# Altium integrated library NSC LDO.IntLib: 1202 symbols (part 20 of 27)
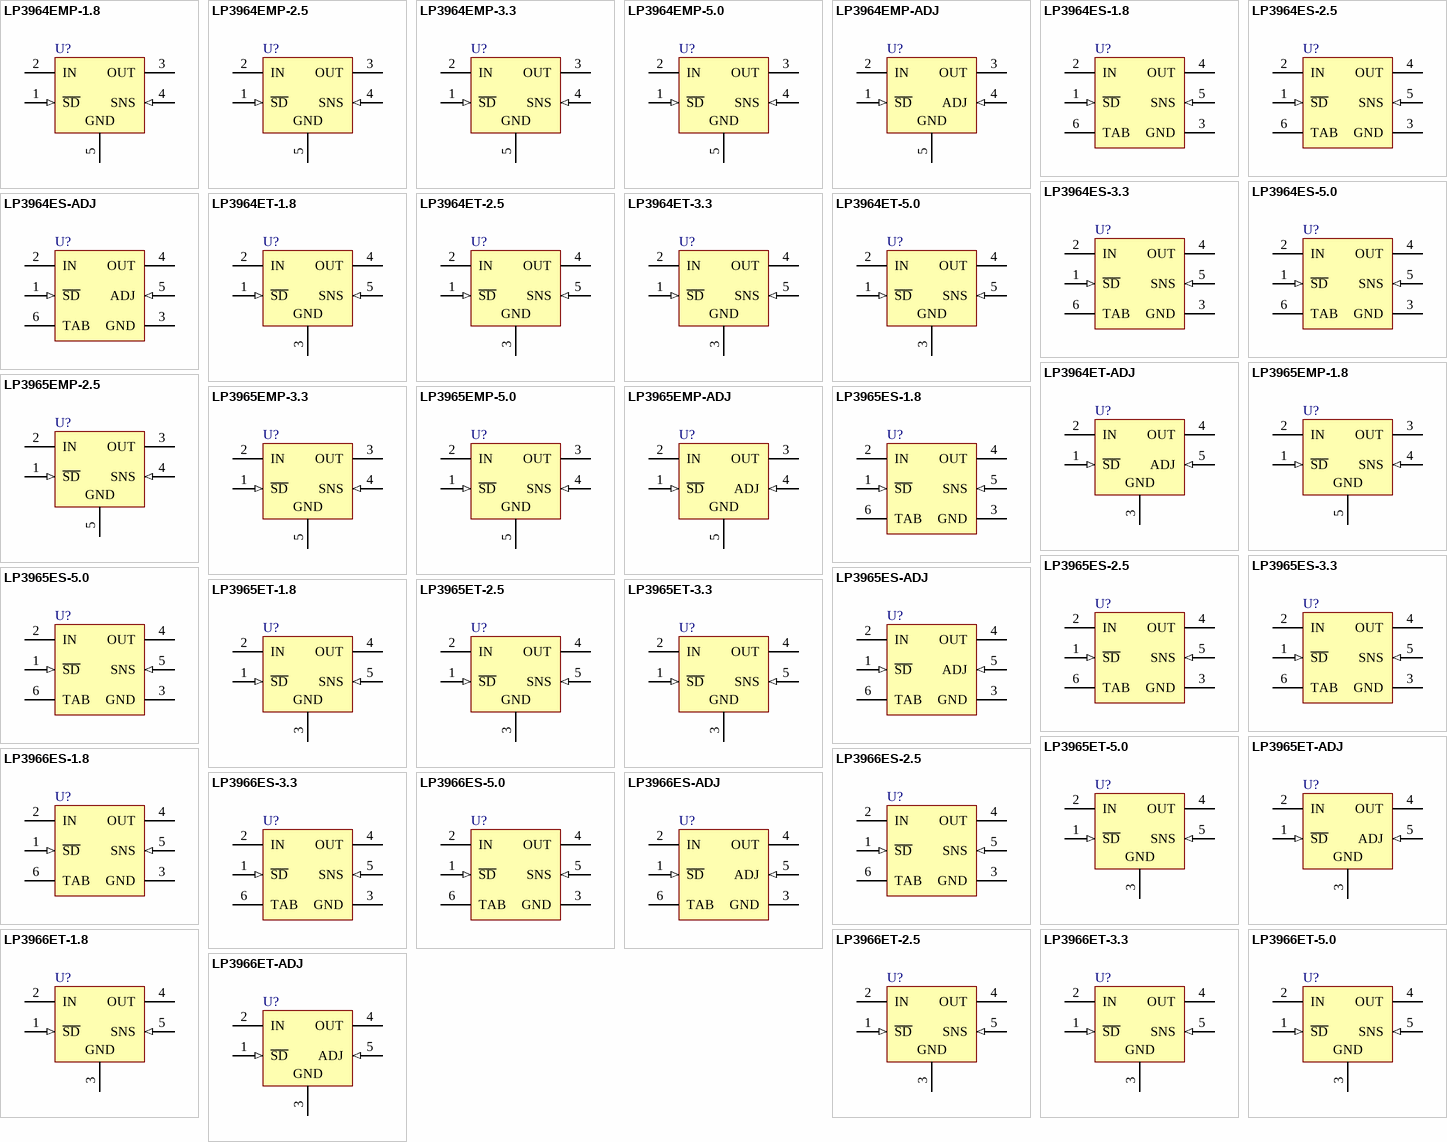
[diagram p49: symbols LP3964EMP-1.8 to LP3966ET-ADJ]

## LP3964ET-ADJ
designator U?
800mA Fast Ultra Low Dropout Linear Regulator; PartNumber: LP3964ET-ADJ; Manufacturer: National Semiconductor; CompType: LDO IC; PackageTopMarking: NSUZXYTTE#*LP3964ET*-ADJ; Published: 4-Dec-2008; DatasheetVersion: Sep-2006; PackageVersion: revA, Oct-1989; PackageReference: T05D; Publisher: Altium Limited; PackageDescription: TO-220, Molded, Stagger Bend, 5 Lead; RoHS: Y; PinCount: 5; DigiKeyPartNumber: LP3964ET-ADJ-ND; ComponentLink1Description: LP3964 Datasheet; ComponentLink1URL: http://www.national.com/ds/LP/LP3964.pdf; ComponentLink2Description: LP3964 Web Page; ComponentLink2URL: http://www.national.com/pf/LP/LP3964.html; ComponentLink3Description: T05D Package Page; ComponentLink3URL: http://www.national.com/packaging/folders/t05d.html
footprint T05D (TO, Thru-Hole, Vertical, Heatsink Mounted; 5 Bent Staggered Leads; Pitch 1.7 mm)
pins: 1 ~{SD} (in), 2 IN (power), 3 GND (power), 4 OUT (power), 5 ADJ (in)

## LP3965EMP-1.8
designator U?
1.5A Fast Ultra Low Dropout Linear Regulator; PartNumber: LP3965EMP-1.8; Manufacturer: National Semiconductor; CompType: LDO IC; PackageTopMarking: XYTT*LBKB; Published: 4-Dec-2008; DatasheetVersion: Sep-2006; PackageVersion: revA, Jan-2000; PackageReference: MP05A; Publisher: Altium Limited; PackageDescription: Moldec SOT-223, 6.50 x 3.56 x 1.6mm Body, 5 Lead, 1.5mm Pitch; RoHS: Y; PinCount: 5; DigiKeyPartNumber: LP3965EMP-1.8CT-ND; Code_JEDEC: TO-261-AB; Code_IPC: SOT223-5; ComponentLink1Description: LP3965 Datasheet; ComponentLink1URL: http://www.national.com/ds/LP/LP3965.pdf; ComponentLink2Description: LP3965 Web Page; ComponentLink2URL: http://www.national.com/pf/LP/LP3965.html; ComponentLink3Description: MP05A Package Page; ComponentLink3URL: http://www.national.com/packaging/folders/mp05a.html
footprint MP05A_N (SOT223, 5-Leads, Body 6.5x3.5mm, Pitch 1.5mm, Lead Span 7mm, IPC Medium Density)
footprint MP05A_L (SOT223, 5-Leads, Body 6.5x3.5mm, Pitch 1.5mm, Lead Span 7mm, IPC High Density)
footprint MP05A_M (SOT223, 5-Leads, Body 6.5x3.5mm, Pitch 1.5mm, Lead Span 7mm, IPC Low Density)
pins: 1 ~{SD} (in), 2 IN (power), 3 OUT (power), 4 SNS (in), 5 GND (power)

## LP3965EMP-2.5
designator U?
1.5A Fast Ultra Low Dropout Linear Regulator; PartNumber: LP3965EMP-2.5; Manufacturer: National Semiconductor; CompType: LDO IC; PackageTopMarking: XYTT*LBLB; Published: 4-Dec-2008; DatasheetVersion: Sep-2006; PackageVersion: revA, Jan-2000; PackageReference: MP05A; Publisher: Altium Limited; PackageDescription: Moldec SOT-223, 6.50 x 3.56 x 1.6mm Body, 5 Lead, 1.5mm Pitch; RoHS: Y; PinCount: 5; DigiKeyPartNumber: LP3965EMP-2.5CT-ND; Code_JEDEC: TO-261-AB; Code_IPC: SOT223-5; ComponentLink1Description: LP3965 Datasheet; ComponentLink1URL: http://www.national.com/ds/LP/LP3965.pdf; ComponentLink2Description: LP3965 Web Page; ComponentLink2URL: http://www.national.com/pf/LP/LP3965.html; ComponentLink3Description: MP05A Package Page; ComponentLink3URL: http://www.national.com/packaging/folders/mp05a.html
footprint MP05A_N (SOT223, 5-Leads, Body 6.5x3.5mm, Pitch 1.5mm, Lead Span 7mm, IPC Medium Density)
footprint MP05A_L (SOT223, 5-Leads, Body 6.5x3.5mm, Pitch 1.5mm, Lead Span 7mm, IPC High Density)
footprint MP05A_M (SOT223, 5-Leads, Body 6.5x3.5mm, Pitch 1.5mm, Lead Span 7mm, IPC Low Density)
pins: 1 ~{SD} (in), 2 IN (power), 3 OUT (power), 4 SNS (in), 5 GND (power)

## LP3965EMP-3.3
designator U?
1.5A Fast Ultra Low Dropout Linear Regulator; PartNumber: LP3965EMP-3.3; Manufacturer: National Semiconductor; CompType: LDO IC; PackageTopMarking: XYTT*LBNB; Published: 4-Dec-2008; DatasheetVersion: Sep-2006; PackageVersion: revA, Jan-2000; PackageReference: MP05A; Publisher: Altium Limited; PackageDescription: Moldec SOT-223, 6.50 x 3.56 x 1.6mm Body, 5 Lead, 1.5mm Pitch; RoHS: O; PinCount: 5; DigiKeyPartNumber: LP3965EMP-3.3CT-ND; Code_JEDEC: TO-261-AB; Code_IPC: SOT223-5; ComponentLink1Description: LP3965 Datasheet; ComponentLink1URL: http://www.national.com/ds/LP/LP3965.pdf; ComponentLink2Description: LP3965 Web Page; ComponentLink2URL: http://www.national.com/pf/LP/LP3965.html; ComponentLink3Description: MP05A Package Page; ComponentLink3URL: http://www.national.com/packaging/folders/mp05a.html
footprint MP05A_N (SOT223, 5-Leads, Body 6.5x3.5mm, Pitch 1.5mm, Lead Span 7mm, IPC Medium Density)
footprint MP05A_L (SOT223, 5-Leads, Body 6.5x3.5mm, Pitch 1.5mm, Lead Span 7mm, IPC High Density)
footprint MP05A_M (SOT223, 5-Leads, Body 6.5x3.5mm, Pitch 1.5mm, Lead Span 7mm, IPC Low Density)
pins: 1 ~{SD} (in), 2 IN (power), 3 OUT (power), 4 SNS (in), 5 GND (power)

## LP3965EMP-5.0
designator U?
1.5A Fast Ultra Low Dropout Linear Regulator; PartNumber: LP3965EMP-5.0; Manufacturer: National Semiconductor; CompType: LDO IC; PackageTopMarking: XYTT*LBVB; Published: 4-Dec-2008; DatasheetVersion: Sep-2006; PackageVersion: revA, Jan-2000; PackageReference: MP05A; Publisher: Altium Limited; PackageDescription: Moldec SOT-223, 6.50 x 3.56 x 1.6mm Body, 5 Lead, 1.5mm Pitch; RoHS: Y; PinCount: 5; DigiKeyPartNumber: LP3965EMP-5.0CT-ND; Code_JEDEC: TO-261-AB; Code_IPC: SOT223-5; ComponentLink1Description: LP3965 Datasheet; ComponentLink1URL: http://www.national.com/ds/LP/LP3965.pdf; ComponentLink2Description: LP3965 Web Page; ComponentLink2URL: http://www.national.com/pf/LP/LP3965.html; ComponentLink3Description: MP05A Package Page; ComponentLink3URL: http://www.national.com/packaging/folders/mp05a.html
footprint MP05A_N (SOT223, 5-Leads, Body 6.5x3.5mm, Pitch 1.5mm, Lead Span 7mm, IPC Medium Density)
footprint MP05A_L (SOT223, 5-Leads, Body 6.5x3.5mm, Pitch 1.5mm, Lead Span 7mm, IPC High Density)
footprint MP05A_M (SOT223, 5-Leads, Body 6.5x3.5mm, Pitch 1.5mm, Lead Span 7mm, IPC Low Density)
pins: 1 ~{SD} (in), 2 IN (power), 3 OUT (power), 4 SNS (in), 5 GND (power)

## LP3965EMP-ADJ
designator U?
1.5A Fast Ultra Low Dropout Linear Regulator; PartNumber: LP3965EMP-ADJ; Manufacturer: National Semiconductor; CompType: LDO IC; PackageTopMarking: XYTT*LBRB; Published: 4-Dec-2008; DatasheetVersion: Sep-2006; PackageVersion: revA, Jan-2000; PackageReference: MP05A; Publisher: Altium Limited; PackageDescription: Moldec SOT-223, 6.50 x 3.56 x 1.6mm Body, 5 Lead, 1.5mm Pitch; RoHS: O; PinCount: 5; DigiKeyPartNumber: LP3965EMP-ADJCT-ND; Code_JEDEC: TO-261-AB; Code_IPC: SOT223-5; ComponentLink1Description: LP3965 Datasheet; ComponentLink1URL: http://www.national.com/ds/LP/LP3965.pdf; ComponentLink2Description: LP3965 Web Page; ComponentLink2URL: http://www.national.com/pf/LP/LP3965.html; ComponentLink3Description: MP05A Package Page; ComponentLink3URL: http://www.national.com/packaging/folders/mp05a.html
footprint MP05A_N (SOT223, 5-Leads, Body 6.5x3.5mm, Pitch 1.5mm, Lead Span 7mm, IPC Medium Density)
footprint MP05A_L (SOT223, 5-Leads, Body 6.5x3.5mm, Pitch 1.5mm, Lead Span 7mm, IPC High Density)
footprint MP05A_M (SOT223, 5-Leads, Body 6.5x3.5mm, Pitch 1.5mm, Lead Span 7mm, IPC Low Density)
pins: 1 ~{SD} (in), 2 IN (power), 3 OUT (power), 4 ADJ (in), 5 GND (power)

## LP3965ES-1.8
designator U?
1.5A Fast Ultra Low Dropout Linear Regulator; PartNumber: LP3965ES-1.8; Manufacturer: National Semiconductor; CompType: LDO IC; PackageTopMarking: NSUZXYTTE#*LP3965ES*-1.8; Published: 4-Dec-2008; DatasheetVersion: Sep-2006; PackageVersion: revD, Apr-2005; PackageReference: TS5B; Publisher: Altium Limited; PackageDescription: TO-263, Molded, .400 x .390 x .180in, 5 Lead, .067in Pitch, Surface Mount; RoHS: O; PinCount: 5; DigiKeyPartNumber: LP3965ES-1.8-ND; Code_JEDEC: MO-169-AB; ComponentLink1Description: LP3965 Datasheet; ComponentLink1URL: http://www.national.com/ds/LP/LP3965.pdf; ComponentLink2Description: LP3965 Web Page; ComponentLink2URL: http://www.national.com/pf/LP/LP3965.html; ComponentLink3Description: TS5B Package Page; ComponentLink3URL: http://www.national.com/packaging/folders/ts5b.html
footprint TS5B_N (D2-PAK, 6-Leads, Body 8.6x10.2mm, Pitch 1.7mm, Lead Span 14.1mm, IPC Medium Density)
footprint TS5B_L (D2-PAK, 6-Leads, Body 8.6x10.2mm, Pitch 1.7mm, Lead Span 14.1mm, IPC High Density)
footprint TS5B_M (D2-PAK, 6-Leads, Body 8.6x10.2mm, Pitch 1.7mm, Lead Span 14.1mm, IPC Low Density)
pins: 1 ~{SD} (in), 2 IN (power), 3 GND (power), 4 OUT (power), 5 SNS (in), 6 TAB (power)

## LP3965ES-2.5
designator U?
1.5A Fast Ultra Low Dropout Linear Regulator; PartNumber: LP3965ES-2.5; Manufacturer: National Semiconductor; CompType: LDO IC; PackageTopMarking: NSUZXYTTE#*LP3965ES*-2.5; Published: 4-Dec-2008; DatasheetVersion: Sep-2006; PackageVersion: revD, Apr-2005; PackageReference: TS5B; Publisher: Altium Limited; PackageDescription: TO-263, Molded, .400 x .390 x .180in, 5 Lead, .067in Pitch, Surface Mount; RoHS: O; PinCount: 5; DigiKeyPartNumber: LP3965ES-2.5-ND; Code_JEDEC: MO-169-AB; ComponentLink1Description: LP3965 Datasheet; ComponentLink1URL: http://www.national.com/ds/LP/LP3965.pdf; ComponentLink2Description: LP3965 Web Page; ComponentLink2URL: http://www.national.com/pf/LP/LP3965.html; ComponentLink3Description: TS5B Package Page; ComponentLink3URL: http://www.national.com/packaging/folders/ts5b.html
footprint TS5B_N (D2-PAK, 6-Leads, Body 8.6x10.2mm, Pitch 1.7mm, Lead Span 14.1mm, IPC Medium Density)
footprint TS5B_L (D2-PAK, 6-Leads, Body 8.6x10.2mm, Pitch 1.7mm, Lead Span 14.1mm, IPC High Density)
footprint TS5B_M (D2-PAK, 6-Leads, Body 8.6x10.2mm, Pitch 1.7mm, Lead Span 14.1mm, IPC Low Density)
pins: 1 ~{SD} (in), 2 IN (power), 3 GND (power), 4 OUT (power), 5 SNS (in), 6 TAB (power)

## LP3965ES-3.3
designator U?
1.5A Fast Ultra Low Dropout Linear Regulator; PartNumber: LP3965ES-3.3; Manufacturer: National Semiconductor; CompType: LDO IC; PackageTopMarking: NSUZXYTTE#*LP3965ES*-3.3; Published: 4-Dec-2008; DatasheetVersion: Sep-2006; PackageVersion: revD, Apr-2005; PackageReference: TS5B; Publisher: Altium Limited; PackageDescription: TO-263, Molded, .400 x .390 x .180in, 5 Lead, .067in Pitch, Surface Mount; RoHS: O; PinCount: 5; DigiKeyPartNumber: LP3965ES-3.3-ND; Code_JEDEC: MO-169-AB; ComponentLink1Description: LP3965 Datasheet; ComponentLink1URL: http://www.national.com/ds/LP/LP3965.pdf; ComponentLink2Description: LP3965 Web Page; ComponentLink2URL: http://www.national.com/pf/LP/LP3965.html; ComponentLink3Description: TS5B Package Page; ComponentLink3URL: http://www.national.com/packaging/folders/ts5b.html
footprint TS5B_N (D2-PAK, 6-Leads, Body 8.6x10.2mm, Pitch 1.7mm, Lead Span 14.1mm, IPC Medium Density)
footprint TS5B_L (D2-PAK, 6-Leads, Body 8.6x10.2mm, Pitch 1.7mm, Lead Span 14.1mm, IPC High Density)
footprint TS5B_M (D2-PAK, 6-Leads, Body 8.6x10.2mm, Pitch 1.7mm, Lead Span 14.1mm, IPC Low Density)
pins: 1 ~{SD} (in), 2 IN (power), 3 GND (power), 4 OUT (power), 5 SNS (in), 6 TAB (power)

## LP3965ES-5.0
designator U?
1.5A Fast Ultra Low Dropout Linear Regulator; PartNumber: LP3965ES-5.0; Manufacturer: National Semiconductor; CompType: LDO IC; PackageTopMarking: NSUZXYTTE#*LP3965ES*-5.0; Published: 4-Dec-2008; DatasheetVersion: Sep-2006; PackageVersion: revD, Apr-2005; PackageReference: TS5B; Publisher: Altium Limited; PackageDescription: TO-263, Molded, .400 x .390 x .180in, 5 Lead, .067in Pitch, Surface Mount; RoHS: Y; PinCount: 5; DigiKeyPartNumber: LP3965ES-5.0-ND; Code_JEDEC: MO-169-AB; ComponentLink1Description: LP3965 Datasheet; ComponentLink1URL: http://www.national.com/ds/LP/LP3965.pdf; ComponentLink2Description: LP3965 Web Page; ComponentLink2URL: http://www.national.com/pf/LP/LP3965.html; ComponentLink3Description: TS5B Package Page; ComponentLink3URL: http://www.national.com/packaging/folders/ts5b.html
footprint TS5B_N (D2-PAK, 6-Leads, Body 8.6x10.2mm, Pitch 1.7mm, Lead Span 14.1mm, IPC Medium Density)
footprint TS5B_L (D2-PAK, 6-Leads, Body 8.6x10.2mm, Pitch 1.7mm, Lead Span 14.1mm, IPC High Density)
footprint TS5B_M (D2-PAK, 6-Leads, Body 8.6x10.2mm, Pitch 1.7mm, Lead Span 14.1mm, IPC Low Density)
pins: 1 ~{SD} (in), 2 IN (power), 3 GND (power), 4 OUT (power), 5 SNS (in), 6 TAB (power)

## LP3965ES-ADJ
designator U?
1.5A Fast Ultra Low Dropout Linear Regulator; PartNumber: LP3965ES-ADJ; Manufacturer: National Semiconductor; CompType: LDO IC; PackageTopMarking: NSUZXYTTE#*LP3965ES*-ADJ; Published: 4-Dec-2008; DatasheetVersion: Sep-2006; PackageVersion: revD, Apr-2005; PackageReference: TS5B; Publisher: Altium Limited; PackageDescription: TO-263, Molded, .400 x .390 x .180in, 5 Lead, .067in Pitch, Surface Mount; RoHS: O; PinCount: 5; DigiKeyPartNumber: LP3965ES-ADJ-ND; Code_JEDEC: MO-169-AB; ComponentLink1Description: LP3965 Datasheet; ComponentLink1URL: http://www.national.com/ds/LP/LP3965.pdf; ComponentLink2Description: LP3965 Web Page; ComponentLink2URL: http://www.national.com/pf/LP/LP3965.html; ComponentLink3Description: TS5B Package Page; ComponentLink3URL: http://www.national.com/packaging/folders/ts5b.html
footprint TS5B_N (D2-PAK, 6-Leads, Body 8.6x10.2mm, Pitch 1.7mm, Lead Span 14.1mm, IPC Medium Density)
footprint TS5B_L (D2-PAK, 6-Leads, Body 8.6x10.2mm, Pitch 1.7mm, Lead Span 14.1mm, IPC High Density)
footprint TS5B_M (D2-PAK, 6-Leads, Body 8.6x10.2mm, Pitch 1.7mm, Lead Span 14.1mm, IPC Low Density)
pins: 1 ~{SD} (in), 2 IN (power), 3 GND (power), 4 OUT (power), 5 ADJ (in), 6 TAB (power)

## LP3965ET-1.8
designator U?
1.5A Fast Ultra Low Dropout Linear Regulator; PartNumber: LP3965ET-1.8; Manufacturer: National Semiconductor; CompType: LDO IC; PackageTopMarking: NSUZXYTTE#*LP3965ET*-1.8; Published: 4-Dec-2008; DatasheetVersion: Sep-2006; PackageVersion: revA, Oct-1989; PackageReference: T05D; Publisher: Altium Limited; PackageDescription: TO-220, Molded, Stagger Bend, 5 Lead; RoHS: Y; PinCount: 5; DigiKeyPartNumber: LP3965ET-1.8-ND; ComponentLink1Description: LP3965 Datasheet; ComponentLink1URL: http://www.national.com/ds/LP/LP3965.pdf; ComponentLink2Description: LP3965 Web Page; ComponentLink2URL: http://www.national.com/pf/LP/LP3965.html; ComponentLink3Description: T05D Package Page; ComponentLink3URL: http://www.national.com/packaging/folders/t05d.html
footprint T05D (TO, Thru-Hole, Vertical, Heatsink Mounted; 5 Bent Staggered Leads; Pitch 1.7 mm)
pins: 1 ~{SD} (in), 2 IN (power), 3 GND (power), 4 OUT (power), 5 SNS (in)

## LP3965ET-2.5
designator U?
1.5A Fast Ultra Low Dropout Linear Regulator; PartNumber: LP3965ET-2.5; Manufacturer: National Semiconductor; CompType: LDO IC; PackageTopMarking: NSUZXYTTE#*LP3965ET*-2.5; Published: 4-Dec-2008; DatasheetVersion: Sep-2006; PackageVersion: revA, Oct-1989; PackageReference: T05D; Publisher: Altium Limited; PackageDescription: TO-220, Molded, Stagger Bend, 5 Lead; RoHS: Y; PinCount: 5; DigiKeyPartNumber: LP3965ET-2.5-ND; ComponentLink1Description: LP3965 Datasheet; ComponentLink1URL: http://www.national.com/ds/LP/LP3965.pdf; ComponentLink2Description: LP3965 Web Page; ComponentLink2URL: http://www.national.com/pf/LP/LP3965.html; ComponentLink3Description: T05D Package Page; ComponentLink3URL: http://www.national.com/packaging/folders/t05d.html
footprint T05D (TO, Thru-Hole, Vertical, Heatsink Mounted; 5 Bent Staggered Leads; Pitch 1.7 mm)
pins: 1 ~{SD} (in), 2 IN (power), 3 GND (power), 4 OUT (power), 5 SNS (in)

## LP3965ET-3.3
designator U?
1.5A Fast Ultra Low Dropout Linear Regulator; PartNumber: LP3965ET-3.3; Manufacturer: National Semiconductor; CompType: LDO IC; PackageTopMarking: NSUZXYTTE#*LP3965ET*-3.3; Published: 4-Dec-2008; DatasheetVersion: Sep-2006; PackageVersion: revA, Oct-1989; PackageReference: T05D; Publisher: Altium Limited; PackageDescription: TO-220, Molded, Stagger Bend, 5 Lead; RoHS: Y; PinCount: 5; DigiKeyPartNumber: LP3965ET-3.3-ND; ComponentLink1Description: LP3965 Datasheet; ComponentLink1URL: http://www.national.com/ds/LP/LP3965.pdf; ComponentLink2Description: LP3965 Web Page; ComponentLink2URL: http://www.national.com/pf/LP/LP3965.html; ComponentLink3Description: T05D Package Page; ComponentLink3URL: http://www.national.com/packaging/folders/t05d.html
footprint T05D (TO, Thru-Hole, Vertical, Heatsink Mounted; 5 Bent Staggered Leads; Pitch 1.7 mm)
pins: 1 ~{SD} (in), 2 IN (power), 3 GND (power), 4 OUT (power), 5 SNS (in)

## LP3965ET-5.0
designator U?
1.5A Fast Ultra Low Dropout Linear Regulator; PartNumber: LP3965ET-5.0; Manufacturer: National Semiconductor; CompType: LDO IC; PackageTopMarking: NSUZXYTTE#*LP3965ET*-5.0; Published: 4-Dec-2008; DatasheetVersion: Sep-2006; PackageVersion: revA, Oct-1989; PackageReference: T05D; Publisher: Altium Limited; PackageDescription: TO-220, Molded, Stagger Bend, 5 Lead; RoHS: Y; PinCount: 5; DigiKeyPartNumber: LP3965ET-5.0-ND; ComponentLink1Description: LP3965 Datasheet; ComponentLink1URL: http://www.national.com/ds/LP/LP3965.pdf; ComponentLink2Description: LP3965 Web Page; ComponentLink2URL: http://www.national.com/pf/LP/LP3965.html; ComponentLink3Description: T05D Package Page; ComponentLink3URL: http://www.national.com/packaging/folders/t05d.html
footprint T05D (TO, Thru-Hole, Vertical, Heatsink Mounted; 5 Bent Staggered Leads; Pitch 1.7 mm)
pins: 1 ~{SD} (in), 2 IN (power), 3 GND (power), 4 OUT (power), 5 SNS (in)

## LP3965ET-ADJ
designator U?
1.5A Fast Ultra Low Dropout Linear Regulator; PartNumber: LP3965ET-ADJ; Manufacturer: National Semiconductor; CompType: LDO IC; PackageTopMarking: NSUZXYTTE#*LP3965ET*-ADJ; Published: 4-Dec-2008; DatasheetVersion: Sep-2006; PackageVersion: revA, Oct-1989; PackageReference: T05D; Publisher: Altium Limited; PackageDescription: TO-220, Molded, Stagger Bend, 5 Lead; RoHS: O; PinCount: 5; DigiKeyPartNumber: LP3965ET-ADJ-ND; ComponentLink1Description: LP3965 Datasheet; ComponentLink1URL: http://www.national.com/ds/LP/LP3965.pdf; ComponentLink2Description: LP3965 Web Page; ComponentLink2URL: http://www.national.com/pf/LP/LP3965.html; ComponentLink3Description: T05D Package Page; ComponentLink3URL: http://www.national.com/packaging/folders/t05d.html
footprint T05D (TO, Thru-Hole, Vertical, Heatsink Mounted; 5 Bent Staggered Leads; Pitch 1.7 mm)
pins: 1 ~{SD} (in), 2 IN (power), 3 GND (power), 4 OUT (power), 5 ADJ (in)

## LP3966ES-1.8
designator U?
3A Fast Ultra Low Dropout Linear Regulator; PartNumber: LP3966ES-1.8; Manufacturer: National Semiconductor; CompType: LDO IC; PackageTopMarking: NSUZXYTTE#*LP3966ES*-1.8; Published: 4-Dec-2008; DatasheetVersion: Sep-2006; PackageVersion: revD, Apr-2005; PackageReference: TS5B; Publisher: Altium Limited; PackageDescription: TO-263, Molded, .400 x .390 x .180in, 5 Lead, .067in Pitch, Surface Mount; RoHS: O; PinCount: 5; DigiKeyPartNumber: LP3966ES-1.8-ND; Code_JEDEC: MO-169-AB; ComponentLink1Description: LP3966 Datasheet; ComponentLink1URL: http://www.national.com/ds/LP/LP3966.pdf; ComponentLink2Description: LP3966 Web Page; ComponentLink2URL: http://www.national.com/pf/LP/LP3966.html; ComponentLink3Description: TS5B Package Page; ComponentLink3URL: http://www.national.com/packaging/folders/ts5b.html
footprint TS5B_N (D2-PAK, 6-Leads, Body 8.6x10.2mm, Pitch 1.7mm, Lead Span 14.1mm, IPC Medium Density)
footprint TS5B_L (D2-PAK, 6-Leads, Body 8.6x10.2mm, Pitch 1.7mm, Lead Span 14.1mm, IPC High Density)
footprint TS5B_M (D2-PAK, 6-Leads, Body 8.6x10.2mm, Pitch 1.7mm, Lead Span 14.1mm, IPC Low Density)
pins: 1 ~{SD} (in), 2 IN (power), 3 GND (power), 4 OUT (power), 5 SNS (in), 6 TAB (power)

## LP3966ES-2.5
designator U?
3A Fast Ultra Low Dropout Linear Regulator; PartNumber: LP3966ES-2.5; Manufacturer: National Semiconductor; CompType: LDO IC; PackageTopMarking: NSUZXYTTE#*LP3966ES*-2.5; Published: 4-Dec-2008; DatasheetVersion: Sep-2006; PackageVersion: revD, Apr-2005; PackageReference: TS5B; Publisher: Altium Limited; PackageDescription: TO-263, Molded, .400 x .390 x .180in, 5 Lead, .067in Pitch, Surface Mount; RoHS: O; PinCount: 5; DigiKeyPartNumber: LP3966ES-2.5-ND; Code_JEDEC: MO-169-AB; ComponentLink1Description: LP3966 Datasheet; ComponentLink1URL: http://www.national.com/ds/LP/LP3966.pdf; ComponentLink2Description: LP3966 Web Page; ComponentLink2URL: http://www.national.com/pf/LP/LP3966.html; ComponentLink3Description: TS5B Package Page; ComponentLink3URL: http://www.national.com/packaging/folders/ts5b.html
footprint TS5B_N (D2-PAK, 6-Leads, Body 8.6x10.2mm, Pitch 1.7mm, Lead Span 14.1mm, IPC Medium Density)
footprint TS5B_L (D2-PAK, 6-Leads, Body 8.6x10.2mm, Pitch 1.7mm, Lead Span 14.1mm, IPC High Density)
footprint TS5B_M (D2-PAK, 6-Leads, Body 8.6x10.2mm, Pitch 1.7mm, Lead Span 14.1mm, IPC Low Density)
pins: 1 ~{SD} (in), 2 IN (power), 3 GND (power), 4 OUT (power), 5 SNS (in), 6 TAB (power)

## LP3966ES-3.3
designator U?
3A Fast Ultra Low Dropout Linear Regulator; PartNumber: LP3966ES-3.3; Manufacturer: National Semiconductor; CompType: LDO IC; PackageTopMarking: NSUZXYTTE#*LP3966ES*-3.3; Published: 4-Dec-2008; DatasheetVersion: Sep-2006; PackageVersion: revD, Apr-2005; PackageReference: TS5B; Publisher: Altium Limited; PackageDescription: TO-263, Molded, .400 x .390 x .180in, 5 Lead, .067in Pitch, Surface Mount; RoHS: O; PinCount: 5; DigiKeyPartNumber: LP3966ES-3.3-ND; Code_JEDEC: MO-169-AB; ComponentLink1Description: LP3966 Datasheet; ComponentLink1URL: http://www.national.com/ds/LP/LP3966.pdf; ComponentLink2Description: LP3966 Web Page; ComponentLink2URL: http://www.national.com/pf/LP/LP3966.html; ComponentLink3Description: TS5B Package Page; ComponentLink3URL: http://www.national.com/packaging/folders/ts5b.html
footprint TS5B_N (D2-PAK, 6-Leads, Body 8.6x10.2mm, Pitch 1.7mm, Lead Span 14.1mm, IPC Medium Density)
footprint TS5B_L (D2-PAK, 6-Leads, Body 8.6x10.2mm, Pitch 1.7mm, Lead Span 14.1mm, IPC High Density)
footprint TS5B_M (D2-PAK, 6-Leads, Body 8.6x10.2mm, Pitch 1.7mm, Lead Span 14.1mm, IPC Low Density)
pins: 1 ~{SD} (in), 2 IN (power), 3 GND (power), 4 OUT (power), 5 SNS (in), 6 TAB (power)

## LP3966ES-5.0
designator U?
3A Fast Ultra Low Dropout Linear Regulator; PartNumber: LP3966ES-5.0; Manufacturer: National Semiconductor; CompType: LDO IC; PackageTopMarking: NSUZXYTTE#*LP3966ES*-5.0; Published: 4-Dec-2008; DatasheetVersion: Sep-2006; PackageVersion: revD, Apr-2005; PackageReference: TS5B; Publisher: Altium Limited; PackageDescription: TO-263, Molded, .400 x .390 x .180in, 5 Lead, .067in Pitch, Surface Mount; RoHS: Y; PinCount: 5; DigiKeyPartNumber: LP3966ES-5.0-ND; Code_JEDEC: MO-169-AB; ComponentLink1Description: LP3966 Datasheet; ComponentLink1URL: http://www.national.com/ds/LP/LP3966.pdf; ComponentLink2Description: LP3966 Web Page; ComponentLink2URL: http://www.national.com/pf/LP/LP3966.html; ComponentLink3Description: TS5B Package Page; ComponentLink3URL: http://www.national.com/packaging/folders/ts5b.html
footprint TS5B_N (D2-PAK, 6-Leads, Body 8.6x10.2mm, Pitch 1.7mm, Lead Span 14.1mm, IPC Medium Density)
footprint TS5B_L (D2-PAK, 6-Leads, Body 8.6x10.2mm, Pitch 1.7mm, Lead Span 14.1mm, IPC High Density)
footprint TS5B_M (D2-PAK, 6-Leads, Body 8.6x10.2mm, Pitch 1.7mm, Lead Span 14.1mm, IPC Low Density)
pins: 1 ~{SD} (in), 2 IN (power), 3 GND (power), 4 OUT (power), 5 SNS (in), 6 TAB (power)

## LP3966ES-ADJ
designator U?
3A Fast Ultra Low Dropout Linear Regulator; PartNumber: LP3966ES-ADJ; Manufacturer: National Semiconductor; CompType: LDO IC; PackageTopMarking: NSUZXYTTE#*LP3966ES*-ADJ; Published: 4-Dec-2008; DatasheetVersion: Sep-2006; PackageVersion: revD, Apr-2005; PackageReference: TS5B; Publisher: Altium Limited; PackageDescription: TO-263, Molded, .400 x .390 x .180in, 5 Lead, .067in Pitch, Surface Mount; RoHS: O; PinCount: 5; DigiKeyPartNumber: LP3966ES-ADJ-ND; Code_JEDEC: MO-169-AB; ComponentLink1Description: LP3966 Datasheet; ComponentLink1URL: http://www.national.com/ds/LP/LP3966.pdf; ComponentLink2Description: LP3966 Web Page; ComponentLink2URL: http://www.national.com/pf/LP/LP3966.html; ComponentLink3Description: TS5B Package Page; ComponentLink3URL: http://www.national.com/packaging/folders/ts5b.html
footprint TS5B_N (D2-PAK, 6-Leads, Body 8.6x10.2mm, Pitch 1.7mm, Lead Span 14.1mm, IPC Medium Density)
footprint TS5B_L (D2-PAK, 6-Leads, Body 8.6x10.2mm, Pitch 1.7mm, Lead Span 14.1mm, IPC High Density)
footprint TS5B_M (D2-PAK, 6-Leads, Body 8.6x10.2mm, Pitch 1.7mm, Lead Span 14.1mm, IPC Low Density)
pins: 1 ~{SD} (in), 2 IN (power), 3 GND (power), 4 OUT (power), 5 ADJ (in), 6 TAB (power)

## LP3966ET-1.8
designator U?
3A Fast Ultra Low Dropout Linear Regulator; PartNumber: LP3966ET-1.8; Manufacturer: National Semiconductor; CompType: LDO IC; PackageTopMarking: NSUZXYTTE#*LP3966ET*-1.8; Published: 4-Dec-2008; DatasheetVersion: Sep-2006; PackageVersion: revA, Oct-1989; PackageReference: T05D; Publisher: Altium Limited; PackageDescription: TO-220, Molded, Stagger Bend, 5 Lead; RoHS: Y; PinCount: 5; DigiKeyPartNumber: LP3966ET-1.8-ND; ComponentLink1Description: LP3966 Datasheet; ComponentLink1URL: http://www.national.com/ds/LP/LP3966.pdf; ComponentLink2Description: LP3966 Web Page; ComponentLink2URL: http://www.national.com/pf/LP/LP3966.html; ComponentLink3Description: T05D Package Page; ComponentLink3URL: http://www.national.com/packaging/folders/t05d.html
footprint T05D (TO, Thru-Hole, Vertical, Heatsink Mounted; 5 Bent Staggered Leads; Pitch 1.7 mm)
pins: 1 ~{SD} (in), 2 IN (power), 3 GND (power), 4 OUT (power), 5 SNS (in)

## LP3966ET-2.5
designator U?
3A Fast Ultra Low Dropout Linear Regulator; PartNumber: LP3966ET-2.5; Manufacturer: National Semiconductor; CompType: LDO IC; PackageTopMarking: NSUZXYTTE#*LP3966ET*-2.5; Published: 4-Dec-2008; DatasheetVersion: Sep-2006; PackageVersion: revA, Oct-1989; PackageReference: T05D; Publisher: Altium Limited; PackageDescription: TO-220, Molded, Stagger Bend, 5 Lead; RoHS: Y; PinCount: 5; DigiKeyPartNumber: LP3966ET-2.5-ND; ComponentLink1Description: LP3966 Datasheet; ComponentLink1URL: http://www.national.com/ds/LP/LP3966.pdf; ComponentLink2Description: LP3966 Web Page; ComponentLink2URL: http://www.national.com/pf/LP/LP3966.html; ComponentLink3Description: T05D Package Page; ComponentLink3URL: http://www.national.com/packaging/folders/t05d.html
footprint T05D (TO, Thru-Hole, Vertical, Heatsink Mounted; 5 Bent Staggered Leads; Pitch 1.7 mm)
pins: 1 ~{SD} (in), 2 IN (power), 3 GND (power), 4 OUT (power), 5 SNS (in)

## LP3966ET-3.3
designator U?
3A Fast Ultra Low Dropout Linear Regulator; PartNumber: LP3966ET-3.3; Manufacturer: National Semiconductor; CompType: LDO IC; PackageTopMarking: NSUZXYTTE#*LP3966ET*-3.3; Published: 4-Dec-2008; DatasheetVersion: Sep-2006; PackageVersion: revA, Oct-1989; PackageReference: T05D; Publisher: Altium Limited; PackageDescription: TO-220, Molded, Stagger Bend, 5 Lead; RoHS: Y; PinCount: 5; DigiKeyPartNumber: LP3966ET-3.3-ND; ComponentLink1Description: LP3966 Datasheet; ComponentLink1URL: http://www.national.com/ds/LP/LP3966.pdf; ComponentLink2Description: LP3966 Web Page; ComponentLink2URL: http://www.national.com/pf/LP/LP3966.html; ComponentLink3Description: T05D Package Page; ComponentLink3URL: http://www.national.com/packaging/folders/t05d.html
footprint T05D (TO, Thru-Hole, Vertical, Heatsink Mounted; 5 Bent Staggered Leads; Pitch 1.7 mm)
pins: 1 ~{SD} (in), 2 IN (power), 3 GND (power), 4 OUT (power), 5 SNS (in)

## LP3966ET-5.0
designator U?
3A Fast Ultra Low Dropout Linear Regulator; PartNumber: LP3966ET-5.0; Manufacturer: National Semiconductor; CompType: LDO IC; PackageTopMarking: NSUZXYTTE#*LP3966ET*-5.0; Published: 4-Dec-2008; DatasheetVersion: Sep-2006; PackageVersion: revA, Oct-1989; PackageReference: T05D; Publisher: Altium Limited; PackageDescription: TO-220, Molded, Stagger Bend, 5 Lead; RoHS: Y; PinCount: 5; DigiKeyPartNumber: LP3966ET-5.0-ND; ComponentLink1Description: LP3966 Datasheet; ComponentLink1URL: http://www.national.com/ds/LP/LP3966.pdf; ComponentLink2Description: LP3966 Web Page; ComponentLink2URL: http://www.national.com/pf/LP/LP3966.html; ComponentLink3Description: T05D Package Page; ComponentLink3URL: http://www.national.com/packaging/folders/t05d.html
footprint T05D (TO, Thru-Hole, Vertical, Heatsink Mounted; 5 Bent Staggered Leads; Pitch 1.7 mm)
pins: 1 ~{SD} (in), 2 IN (power), 3 GND (power), 4 OUT (power), 5 SNS (in)

## LP3966ET-ADJ
designator U?
3A Fast Ultra Low Dropout Linear Regulator; PartNumber: LP3966ET-ADJ; Manufacturer: National Semiconductor; CompType: LDO IC; PackageTopMarking: NSUZXYTTE#*LP3966ET*-ADJ; Published: 4-Dec-2008; DatasheetVersion: Sep-2006; PackageVersion: revA, Oct-1989; PackageReference: T05D; Publisher: Altium Limited; PackageDescription: TO-220, Molded, Stagger Bend, 5 Lead; RoHS: O; PinCount: 5; DigiKeyPartNumber: LP3966ET-ADJ-ND; ComponentLink1Description: LP3966 Datasheet; ComponentLink1URL: http://www.national.com/ds/LP/LP3966.pdf; ComponentLink2Description: LP3966 Web Page; ComponentLink2URL: http://www.national.com/pf/LP/LP3966.html; ComponentLink3Description: T05D Package Page; ComponentLink3URL: http://www.national.com/packaging/folders/t05d.html
footprint T05D (TO, Thru-Hole, Vertical, Heatsink Mounted; 5 Bent Staggered Leads; Pitch 1.7 mm)
pins: 1 ~{SD} (in), 2 IN (power), 3 GND (power), 4 OUT (power), 5 ADJ (in)

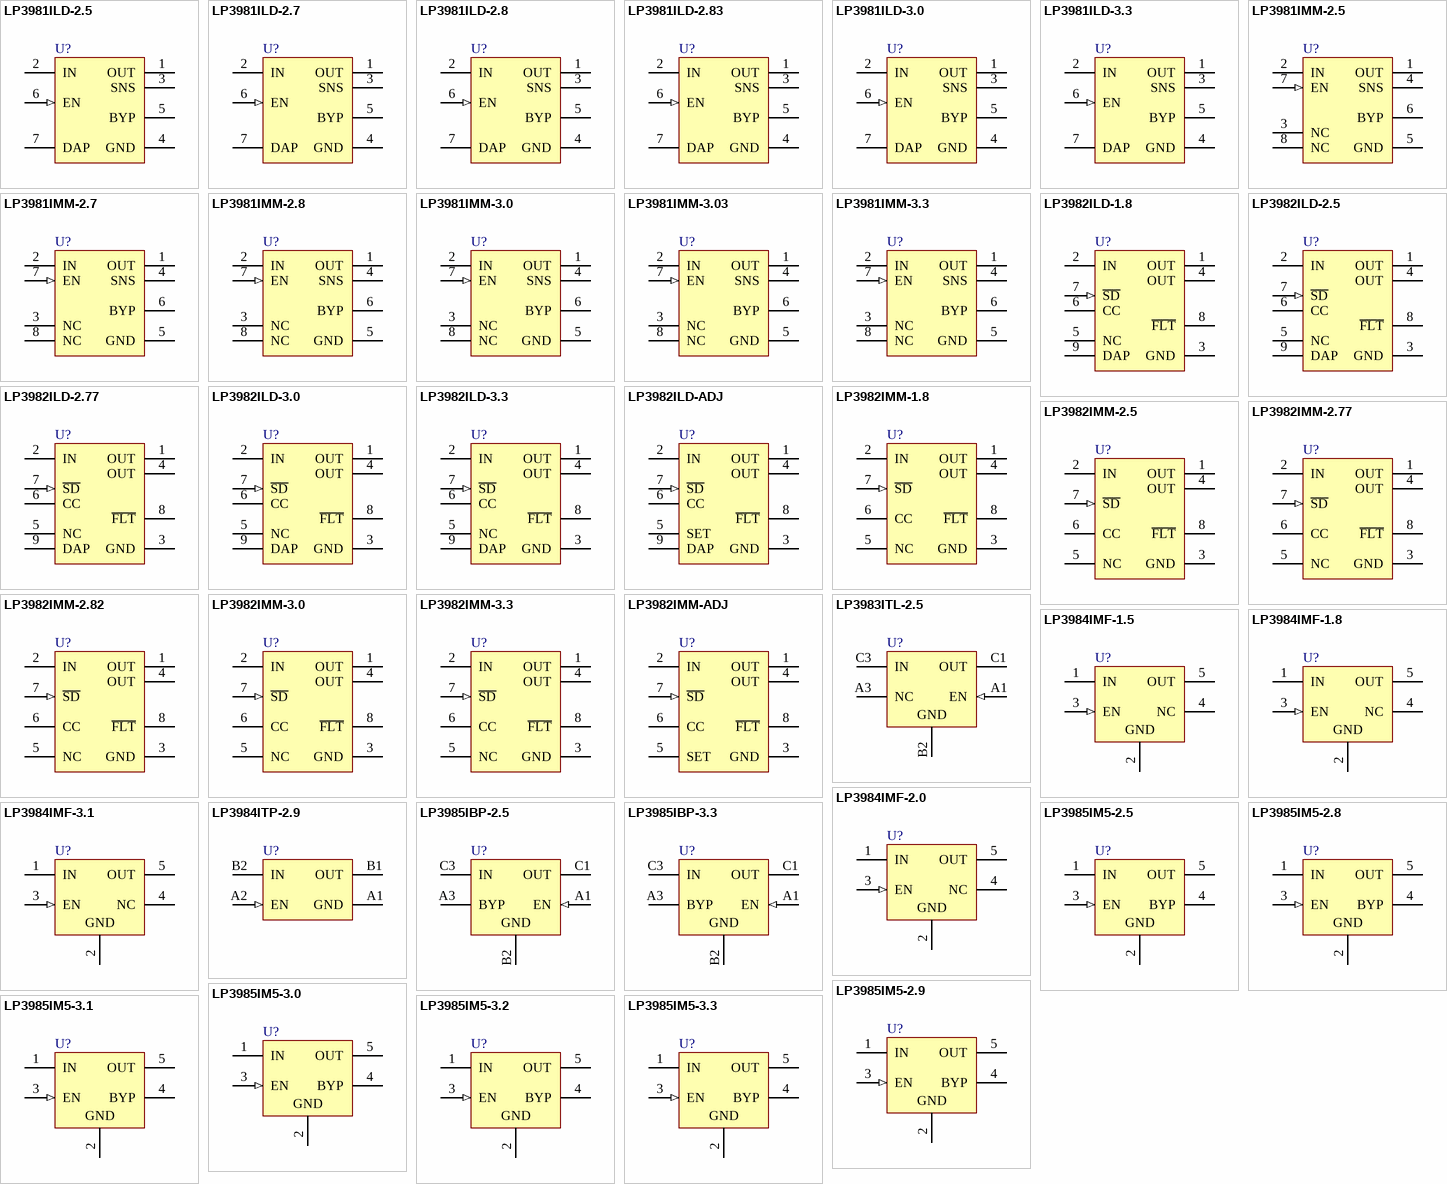
[diagram p22: symbols LP3981ILD-2.5 to LP3985IM5-3.3]

## LP3981ILD-2.5
designator U?
Micropower, 300mA Ultra Low-Dropout CMOS Voltage Regulator; PartNumber: LP3981ILD-2.5; Manufacturer: National Semiconductor; CompType: LDO IC; PackageTopMarking: ZXYTT*LO1UB; Published: 4-Dec-2008; DatasheetVersion: Apr-2005; PackageVersion: revB, Nov-2002; PackageReference: LDC06D; Publisher: Altium Limited; PackageDescription: LLP, Plastic, Dual, 3 x 4 x 0.75mm Body, 6 Lead, 0.8mm Pitch; RoHS: O; PinCount: 6; DigiKeyPartNumber: LP3981ILD-2.5CT-ND; ComponentLink1Description: LP3981 Datasheet; ComponentLink1URL: http://www.national.com/ds/LP/LP3981.pdf; ComponentLink2Description: LP3981 Web Page; ComponentLink2URL: http://www.national.com/pf/LP/LP3981.html; ComponentLink3Description: LDC06D Package Page; ComponentLink3URL: http://www.national.com/packaging/folders/ldc06d.html
footprint LDC06D (PSON, 6-Leads, Body 3x4 mm, Pitch 0.8mm, NSC Recommended)
pins: 1 OUT (power), 2 IN (power), 3 SNS, 4 GND (power), 5 BYP, 6 EN (in), 7 DAP

## LP3981ILD-2.7
designator U?
Micropower, 300mA Ultra Low-Dropout CMOS Voltage Regulator; PartNumber: LP3981ILD-2.7; Manufacturer: National Semiconductor; CompType: LDO IC; PackageTopMarking: ZXYTT*LO1VB; Published: 4-Dec-2008; DatasheetVersion: Apr-2005; PackageVersion: revB, Nov-2002; PackageReference: LDC06D; Publisher: Altium Limited; PackageDescription: LLP, Plastic, Dual, 3 x 4 x 0.75mm Body, 6 Lead, 0.8mm Pitch; RoHS: Y; PinCount: 6; DigiKeyPartNumber: LP3981ILD-2.7CT-ND; ComponentLink1Description: LP3981 Datasheet; ComponentLink1URL: http://www.national.com/ds/LP/LP3981.pdf; ComponentLink2Description: LP3981 Web Page; ComponentLink2URL: http://www.national.com/pf/LP/LP3981.html; ComponentLink3Description: LDC06D Package Page; ComponentLink3URL: http://www.national.com/packaging/folders/ldc06d.html
footprint LDC06D (PSON, 6-Leads, Body 3x4 mm, Pitch 0.8mm, NSC Recommended)
pins: 1 OUT (power), 2 IN (power), 3 SNS, 4 GND (power), 5 BYP, 6 EN (in), 7 DAP

## LP3981ILD-2.8
designator U?
Micropower, 300mA Ultra Low-Dropout CMOS Voltage Regulator; PartNumber: LP3981ILD-2.8; Manufacturer: National Semiconductor; CompType: LDO IC; PackageTopMarking: ZXYTT*L01ZB; Published: 4-Dec-2008; DatasheetVersion: Apr-2005; PackageVersion: revB, Nov-2002; PackageReference: LDC06D; Publisher: Altium Limited; PackageDescription: LLP, Plastic, Dual, 3 x 4 x 0.75mm Body, 6 Lead, 0.8mm Pitch; RoHS: Y; PinCount: 6; DigiKeyPartNumber: LP3981ILD-2.8CT-ND; ComponentLink1Description: LP3981 Datasheet; ComponentLink1URL: http://www.national.com/ds/LP/LP3981.pdf; ComponentLink2Description: LP3981 Web Page; ComponentLink2URL: http://www.national.com/pf/LP/LP3981.html; ComponentLink3Description: LDC06D Package Page; ComponentLink3URL: http://www.national.com/packaging/folders/ldc06d.html
footprint LDC06D (PSON, 6-Leads, Body 3x4 mm, Pitch 0.8mm, NSC Recommended)
pins: 1 OUT (power), 2 IN (power), 3 SNS, 4 GND (power), 5 BYP, 6 EN (in), 7 DAP

## LP3981ILD-2.83
designator U?
Micropower, 300mA Ultra Low-Dropout CMOS Voltage Regulator; PartNumber: LP3981ILD-2.83; Manufacturer: National Semiconductor; CompType: LDO IC; PackageTopMarking: ZXYTT*LO1SB; Published: 4-Dec-2008; DatasheetVersion: Apr-2005; PackageVersion: revB, Nov-2002; PackageReference: LDC06D; Publisher: Altium Limited; PackageDescription: LLP, Plastic, Dual, 3 x 4 x 0.75mm Body, 6 Lead, 0.8mm Pitch; RoHS: Y; PinCount: 6; DigiKeyPartNumber: LP3981ILD-2.83CT-ND; ComponentLink1Description: LP3981 Datasheet; ComponentLink1URL: http://www.national.com/ds/LP/LP3981.pdf; ComponentLink2Description: LP3981 Web Page; ComponentLink2URL: http://www.national.com/pf/LP/LP3981.html; ComponentLink3Description: LDC06D Package Page; ComponentLink3URL: http://www.national.com/packaging/folders/ldc06d.html
footprint LDC06D (PSON, 6-Leads, Body 3x4 mm, Pitch 0.8mm, NSC Recommended)
pins: 1 OUT (power), 2 IN (power), 3 SNS, 4 GND (power), 5 BYP, 6 EN (in), 7 DAP

## LP3981ILD-3.0
designator U?
Micropower, 300mA Ultra Low-Dropout CMOS Voltage Regulator; PartNumber: LP3981ILD-3.0; Manufacturer: National Semiconductor; CompType: LDO IC; PackageTopMarking: ZXYTT*L017B; Published: 4-Dec-2008; DatasheetVersion: Apr-2005; PackageVersion: revB, Nov-2002; PackageReference: LDC06D; Publisher: Altium Limited; PackageDescription: LLP, Plastic, Dual, 3 x 4 x 0.75mm Body, 6 Lead, 0.8mm Pitch; RoHS: Y; PinCount: 6; DigiKeyPartNumber: LP3981ILD-3.0CT-ND; ComponentLink1Description: LP3981 Datasheet; ComponentLink1URL: http://www.national.com/ds/LP/LP3981.pdf; ComponentLink2Description: LP3981 Web Page; ComponentLink2URL: http://www.national.com/pf/LP/LP3981.html; ComponentLink3Description: LDC06D Package Page; ComponentLink3URL: http://www.national.com/packaging/folders/ldc06d.html
footprint LDC06D (PSON, 6-Leads, Body 3x4 mm, Pitch 0.8mm, NSC Recommended)
pins: 1 OUT (power), 2 IN (power), 3 SNS, 4 GND (power), 5 BYP, 6 EN (in), 7 DAP

## LP3981ILD-3.3
designator U?
Micropower, 300mA Ultra Low-Dropout CMOS Voltage Regulator; PartNumber: LP3981ILD-3.3; Manufacturer: National Semiconductor; CompType: LDO IC; PackageTopMarking: ZXYTT*LO1XB; Published: 4-Dec-2008; DatasheetVersion: Apr-2005; PackageVersion: revB, Nov-2002; PackageReference: LDC06D; Publisher: Altium Limited; PackageDescription: LLP, Plastic, Dual, 3 x 4 x 0.75mm Body, 6 Lead, 0.8mm Pitch; RoHS: O; PinCount: 6; DigiKeyPartNumber: LP3981ILD-3.3CT-ND; ComponentLink1Description: LP3981 Datasheet; ComponentLink1URL: http://www.national.com/ds/LP/LP3981.pdf; ComponentLink2Description: LP3981 Web Page; ComponentLink2URL: http://www.national.com/pf/LP/LP3981.html; ComponentLink3Description: LDC06D Package Page; ComponentLink3URL: http://www.national.com/packaging/folders/ldc06d.html
footprint LDC06D (PSON, 6-Leads, Body 3x4 mm, Pitch 0.8mm, NSC Recommended)
pins: 1 OUT (power), 2 IN (power), 3 SNS, 4 GND (power), 5 BYP, 6 EN (in), 7 DAP

## LP3981IMM-2.5
designator U?
Micropower, 300mA Ultra Low-Dropout CMOS Voltage Regulator; PartNumber: LP3981IMM-2.5; Manufacturer: National Semiconductor; CompType: LDO IC; PackageTopMarking: ZXTT*LFKB; Published: 4-Dec-2008; DatasheetVersion: Apr-2005; PackageVersion: revF, Apr-2008; PackageReference: MUA08A; Publisher: Altium Limited; PackageDescription: MINI SOIC, .118 x .118 x .034in, 8 Lead, .0256in Pitch; RoHS: O; PinCount: 8; DigiKeyPartNumber: LP3981IMM-2.5CT-ND; Code_JEDEC: MO-187-AA; ComponentLink1Description: LP3981 Datasheet; ComponentLink1URL: http://www.national.com/ds/LP/LP3981.pdf; ComponentLink2Description: LP3981 Web Page; ComponentLink2URL: http://www.national.com/pf/LP/LP3981.html; ComponentLink3Description: MUA08A Package Page; ComponentLink3URL: http://www.national.com/packaging/folders/mua08a.html
footprint MUA08A_N (TSOP, 8-Leads, Body 3x3mm, Pitch 0.65mm, IPC Medium Density)
footprint MUA08A_L (TSOP, 8-Leads, Body 3x3mm, Pitch 0.65mm, IPC High Density)
footprint MUA08A_M (TSOP, 8-Leads, Body 3x3mm, Pitch 0.65mm, IPC Low Density)
pins: 1 OUT (power), 2 IN (power), 3 NC, 4 SNS, 5 GND (power), 6 BYP, 7 EN (in), 8 NC

## LP3981IMM-2.7
designator U?
Micropower, 300mA Ultra Low-Dropout CMOS Voltage Regulator; PartNumber: LP3981IMM-2.7; Manufacturer: National Semiconductor; CompType: LDO IC; PackageTopMarking: ZXTT*LFLB; Published: 4-Dec-2008; DatasheetVersion: Apr-2005; PackageVersion: revF, Apr-2008; PackageReference: MUA08A; Publisher: Altium Limited; PackageDescription: MINI SOIC, .118 x .118 x .034in, 8 Lead, .0256in Pitch; RoHS: Y; PinCount: 8; DigiKeyPartNumber: LP3981IMM-2.7CT-ND; Code_JEDEC: MO-187-AA; ComponentLink1Description: LP3981 Datasheet; ComponentLink1URL: http://www.national.com/ds/LP/LP3981.pdf; ComponentLink2Description: LP3981 Web Page; ComponentLink2URL: http://www.national.com/pf/LP/LP3981.html; ComponentLink3Description: MUA08A Package Page; ComponentLink3URL: http://www.national.com/packaging/folders/mua08a.html
footprint MUA08A_N (TSOP, 8-Leads, Body 3x3mm, Pitch 0.65mm, IPC Medium Density)
footprint MUA08A_L (TSOP, 8-Leads, Body 3x3mm, Pitch 0.65mm, IPC High Density)
footprint MUA08A_M (TSOP, 8-Leads, Body 3x3mm, Pitch 0.65mm, IPC Low Density)
pins: 1 OUT (power), 2 IN (power), 3 NC, 4 SNS, 5 GND (power), 6 BYP, 7 EN (in), 8 NC

## LP3981IMM-2.8
designator U?
Micropower, 300mA Ultra Low-Dropout CMOS Voltage Regulator; PartNumber: LP3981IMM-2.8; Manufacturer: National Semiconductor; CompType: LDO IC; PackageTopMarking: ZXTT*LFTB; Published: 4-Dec-2008; DatasheetVersion: Apr-2005; PackageVersion: revF, Apr-2008; PackageReference: MUA08A; Publisher: Altium Limited; PackageDescription: MINI SOIC, .118 x .118 x .034in, 8 Lead, .0256in Pitch; RoHS: Y; PinCount: 8; DigiKeyPartNumber: LP3981IMM-2.83CT-ND; Code_JEDEC: MO-187-AA; ComponentLink1Description: LP3981 Datasheet; ComponentLink1URL: http://www.national.com/ds/LP/LP3981.pdf; ComponentLink2Description: LP3981 Web Page; ComponentLink2URL: http://www.national.com/pf/LP/LP3981.html; ComponentLink3Description: MUA08A Package Page; ComponentLink3URL: http://www.national.com/packaging/folders/mua08a.html
footprint MUA08A_N (TSOP, 8-Leads, Body 3x3mm, Pitch 0.65mm, IPC Medium Density)
footprint MUA08A_L (TSOP, 8-Leads, Body 3x3mm, Pitch 0.65mm, IPC High Density)
footprint MUA08A_M (TSOP, 8-Leads, Body 3x3mm, Pitch 0.65mm, IPC Low Density)
pins: 1 OUT (power), 2 IN (power), 3 NC, 4 SNS, 5 GND (power), 6 BYP, 7 EN (in), 8 NC

## LP3981IMM-3.0
designator U?
Micropower, 300mA Ultra Low-Dropout CMOS Voltage Regulator; PartNumber: LP3981IMM-3.0; Manufacturer: National Semiconductor; CompType: LDO IC; PackageTopMarking: ZXTT*LF3B; Published: 4-Dec-2008; DatasheetVersion: Apr-2005; PackageVersion: revF, Apr-2008; PackageReference: MUA08A; Publisher: Altium Limited; PackageDescription: MINI SOIC, .118 x .118 x .034in, 8 Lead, .0256in Pitch; RoHS: Y; PinCount: 8; DigiKeyPartNumber: LP3981IMM-3.03CT-ND; Code_JEDEC: MO-187-AA; ComponentLink1Description: LP3981 Datasheet; ComponentLink1URL: http://www.national.com/ds/LP/LP3981.pdf; ComponentLink2Description: LP3981 Web Page; ComponentLink2URL: http://www.national.com/pf/LP/LP3981.html; ComponentLink3Description: MUA08A Package Page; ComponentLink3URL: http://www.national.com/packaging/folders/mua08a.html
footprint MUA08A_N (TSOP, 8-Leads, Body 3x3mm, Pitch 0.65mm, IPC Medium Density)
footprint MUA08A_L (TSOP, 8-Leads, Body 3x3mm, Pitch 0.65mm, IPC High Density)
footprint MUA08A_M (TSOP, 8-Leads, Body 3x3mm, Pitch 0.65mm, IPC Low Density)
pins: 1 OUT (power), 2 IN (power), 3 NC, 4 SNS, 5 GND (power), 6 BYP, 7 EN (in), 8 NC

## LP3981IMM-3.03
designator U?
Micropower, 300mA Ultra Low-Dropout CMOS Voltage Regulator; PartNumber: LP3981IMM-3.03; Manufacturer: National Semiconductor; CompType: LDO IC; PackageTopMarking: ZXTT*LFPB; Published: 4-Dec-2008; DatasheetVersion: Apr-2005; PackageVersion: revF, Apr-2008; PackageReference: MUA08A; Publisher: Altium Limited; PackageDescription: MINI SOIC, .118 x .118 x .034in, 8 Lead, .0256in Pitch; RoHS: O; PinCount: 8; DigiKeyPartNumber: LP3981IMM-3.03CT-ND; Code_JEDEC: MO-187-AA; ComponentLink1Description: LP3981 Datasheet; ComponentLink1URL: http://www.national.com/ds/LP/LP3981.pdf; ComponentLink2Description: LP3981 Web Page; ComponentLink2URL: http://www.national.com/pf/LP/LP3981.html; ComponentLink3Description: MUA08A Package Page; ComponentLink3URL: http://www.national.com/packaging/folders/mua08a.html
footprint MUA08A_N (TSOP, 8-Leads, Body 3x3mm, Pitch 0.65mm, IPC Medium Density)
footprint MUA08A_L (TSOP, 8-Leads, Body 3x3mm, Pitch 0.65mm, IPC High Density)
footprint MUA08A_M (TSOP, 8-Leads, Body 3x3mm, Pitch 0.65mm, IPC Low Density)
pins: 1 OUT (power), 2 IN (power), 3 NC, 4 SNS, 5 GND (power), 6 BYP, 7 EN (in), 8 NC

## LP3981IMM-3.3
designator U?
Micropower, 300mA Ultra Low-Dropout CMOS Voltage Regulator; PartNumber: LP3981IMM-3.3; Manufacturer: National Semiconductor; CompType: LDO IC; PackageTopMarking: ZXTT*LFNB; Published: 4-Dec-2008; DatasheetVersion: Apr-2005; PackageVersion: revF, Apr-2008; PackageReference: MUA08A; Publisher: Altium Limited; PackageDescription: MINI SOIC, .118 x .118 x .034in, 8 Lead, .0256in Pitch; RoHS: O; PinCount: 8; DigiKeyPartNumber: LP3981IMM-3.3CT-ND; Code_JEDEC: MO-187-AA; ComponentLink1Description: LP3981 Datasheet; ComponentLink1URL: http://www.national.com/ds/LP/LP3981.pdf; ComponentLink2Description: LP3981 Web Page; ComponentLink2URL: http://www.national.com/pf/LP/LP3981.html; ComponentLink3Description: MUA08A Package Page; ComponentLink3URL: http://www.national.com/packaging/folders/mua08a.html
footprint MUA08A_N (TSOP, 8-Leads, Body 3x3mm, Pitch 0.65mm, IPC Medium Density)
footprint MUA08A_L (TSOP, 8-Leads, Body 3x3mm, Pitch 0.65mm, IPC High Density)
footprint MUA08A_M (TSOP, 8-Leads, Body 3x3mm, Pitch 0.65mm, IPC Low Density)
pins: 1 OUT (power), 2 IN (power), 3 NC, 4 SNS, 5 GND (power), 6 BYP, 7 EN (in), 8 NC

## LP3982ILD-1.8
designator U?
Micropower, Ultra Low-Dropout, Low-Noise, 300mA CMOS Regulator; PartNumber: LP3982ILD-1.8; Manufacturer: National Semiconductor; CompType: LDO IC; PackageTopMarking: XYTT*LNB; Published: 4-Dec-2008; DatasheetVersion: Mar-2006; PackageVersion: revB, Jun-2003; PackageReference: LDA08C; Publisher: Altium Limited; PackageDescription: LLP, Plastic, Dual, 2.5 x 3 x 0.75mm, 8 Lead, 0.5mm Pitch; RoHS: O; PinCount: 8; DigiKeyPartNumber: LP3982ILD-1.8CT-ND; Code_JEDEC: MO-229-WDED; ComponentLink1Description: LP3982 Datasheet; ComponentLink1URL: http://www.national.com/ds/LP/LP3982.pdf; ComponentLink2Description: LP3982 Web Page; ComponentLink2URL: http://www.national.com/pf/LP/LP3982.html; ComponentLink3Description: LDA08C Package Page; ComponentLink3URL: http://www.national.com/packaging/folders/lda08c.html
footprint LDA08C (PSON, 8-Leads, Body 2.5x3mm, Pitch 0.5mm, NSC Recommended)
pins: 1 OUT (power), 2 IN (power), 3 GND (power), 4 OUT (power), 5 NC, 6 CC, 7 ~{SD} (in), 8 ~{FLT} (oc), 9 DAP (power)

## LP3982ILD-2.5
designator U?
Micropower, Ultra Low-Dropout, Low-Noise, 300mA CMOS Regulator; PartNumber: LP3982ILD-2.5; Manufacturer: National Semiconductor; CompType: LDO IC; PackageTopMarking: XYTT*LPB; Published: 4-Dec-2008; DatasheetVersion: Mar-2006; PackageVersion: revB, Jun-2003; PackageReference: LDA08C; Publisher: Altium Limited; PackageDescription: LLP, Plastic, Dual, 2.5 x 3 x 0.75mm, 8 Lead, 0.5mm Pitch; RoHS: Y; PinCount: 8; DigiKeyPartNumber: LP3982ILD-2.5CT-ND; Code_JEDEC: MO-229-WDED; ComponentLink1Description: LP3982 Datasheet; ComponentLink1URL: http://www.national.com/ds/LP/LP3982.pdf; ComponentLink2Description: LP3982 Web Page; ComponentLink2URL: http://www.national.com/pf/LP/LP3982.html; ComponentLink3Description: LDA08C Package Page; ComponentLink3URL: http://www.national.com/packaging/folders/lda08c.html
footprint LDA08C (PSON, 8-Leads, Body 2.5x3mm, Pitch 0.5mm, NSC Recommended)
pins: 1 OUT (power), 2 IN (power), 3 GND (power), 4 OUT (power), 5 NC, 6 CC, 7 ~{SD} (in), 8 ~{FLT} (oc), 9 DAP (power)

## LP3982ILD-2.77
designator U?
Micropower, Ultra Low-Dropout, Low-Noise, 300mA CMOS Regulator; PartNumber: LP3982ILD-2.77; Manufacturer: National Semiconductor; CompType: LDO IC; PackageTopMarking: XYTT*LRB; Published: 4-Dec-2008; DatasheetVersion: Mar-2006; PackageVersion: revB, Jun-2003; PackageReference: LDA08C; Publisher: Altium Limited; PackageDescription: LLP, Plastic, Dual, 2.5 x 3 x 0.75mm, 8 Lead, 0.5mm Pitch; RoHS: Y; PinCount: 8; DigiKeyPartNumber: LP3982ILD-2.77CT-ND; Code_JEDEC: MO-229-WDED; ComponentLink1Description: LP3982 Datasheet; ComponentLink1URL: http://www.national.com/ds/LP/LP3982.pdf; ComponentLink2Description: LP3982 Web Page; ComponentLink2URL: http://www.national.com/pf/LP/LP3982.html; ComponentLink3Description: LDA08C Package Page; ComponentLink3URL: http://www.national.com/packaging/folders/lda08c.html
footprint LDA08C (PSON, 8-Leads, Body 2.5x3mm, Pitch 0.5mm, NSC Recommended)
pins: 1 OUT (power), 2 IN (power), 3 GND (power), 4 OUT (power), 5 NC, 6 CC, 7 ~{SD} (in), 8 ~{FLT} (oc), 9 DAP (power)

## LP3982ILD-3.0
designator U?
Micropower, Ultra Low-Dropout, Low-Noise, 300mA CMOS Regulator; PartNumber: LP3982ILD-3.0; Manufacturer: National Semiconductor; CompType: LDO IC; PackageTopMarking: XYTT*LTB; Published: 4-Dec-2008; DatasheetVersion: Mar-2006; PackageVersion: revB, Jun-2003; PackageReference: LDA08C; Publisher: Altium Limited; PackageDescription: LLP, Plastic, Dual, 2.5 x 3 x 0.75mm, 8 Lead, 0.5mm Pitch; RoHS: Y; PinCount: 8; DigiKeyPartNumber: LP3982ILD-3.0CT-ND; Code_JEDEC: MO-229-WDED; ComponentLink1Description: LP3982 Datasheet; ComponentLink1URL: http://www.national.com/ds/LP/LP3982.pdf; ComponentLink2Description: LP3982 Web Page; ComponentLink2URL: http://www.national.com/pf/LP/LP3982.html; ComponentLink3Description: LDA08C Package Page; ComponentLink3URL: http://www.national.com/packaging/folders/lda08c.html
footprint LDA08C (PSON, 8-Leads, Body 2.5x3mm, Pitch 0.5mm, NSC Recommended)
pins: 1 OUT (power), 2 IN (power), 3 GND (power), 4 OUT (power), 5 NC, 6 CC, 7 ~{SD} (in), 8 ~{FLT} (oc), 9 DAP (power)

## LP3982ILD-3.3
designator U?
Micropower, Ultra Low-Dropout, Low-Noise, 300mA CMOS Regulator; PartNumber: LP3982ILD-3.3; Manufacturer: National Semiconductor; CompType: LDO IC; PackageTopMarking: XYTT*LUB; Published: 4-Dec-2008; DatasheetVersion: Mar-2006; PackageVersion: revB, Jun-2003; PackageReference: LDA08C; Publisher: Altium Limited; PackageDescription: LLP, Plastic, Dual, 2.5 x 3 x 0.75mm, 8 Lead, 0.5mm Pitch; RoHS: Y; PinCount: 8; DigiKeyPartNumber: LP3982ILD-3.3CT-ND; Code_JEDEC: MO-229-WDED; ComponentLink1Description: LP3982 Datasheet; ComponentLink1URL: http://www.national.com/ds/LP/LP3982.pdf; ComponentLink2Description: LP3982 Web Page; ComponentLink2URL: http://www.national.com/pf/LP/LP3982.html; ComponentLink3Description: LDA08C Package Page; ComponentLink3URL: http://www.national.com/packaging/folders/lda08c.html
footprint LDA08C (PSON, 8-Leads, Body 2.5x3mm, Pitch 0.5mm, NSC Recommended)
pins: 1 OUT (power), 2 IN (power), 3 GND (power), 4 OUT (power), 5 NC, 6 CC, 7 ~{SD} (in), 8 ~{FLT} (oc), 9 DAP (power)

## LP3982ILD-ADJ
designator U?
Micropower, Ultra Low-Dropout, Low-Noise, 300mA CMOS Regulator; PartNumber: LP3982ILD-ADJ; Manufacturer: National Semiconductor; CompType: LDO IC; PackageTopMarking: XYTT*LVB; Published: 4-Dec-2008; DatasheetVersion: Mar-2006; PackageVersion: revB, Jun-2003; PackageReference: LDA08C; Publisher: Altium Limited; PackageDescription: LLP, Plastic, Dual, 2.5 x 3 x 0.75mm, 8 Lead, 0.5mm Pitch; RoHS: O; PinCount: 8; DigiKeyPartNumber: LP3982ILD-ADJCT-ND; Code_JEDEC: MO-229-WDED; ComponentLink1Description: LP3982 Datasheet; ComponentLink1URL: http://www.national.com/ds/LP/LP3982.pdf; ComponentLink2Description: LP3982 Web Page; ComponentLink2URL: http://www.national.com/pf/LP/LP3982.html; ComponentLink3Description: LDA08C Package Page; ComponentLink3URL: http://www.national.com/packaging/folders/lda08c.html
footprint LDA08C (PSON, 8-Leads, Body 2.5x3mm, Pitch 0.5mm, NSC Recommended)
pins: 1 OUT (power), 2 IN (power), 3 GND (power), 4 OUT (power), 5 SET, 6 CC, 7 ~{SD} (in), 8 ~{FLT} (oc), 9 DAP (power)

## LP3982IMM-1.8
designator U?
Micropower, Ultra Low-Dropout, Low-Noise, 300mA CMOS Regulator; PartNumber: LP3982IMM-1.8; Manufacturer: National Semiconductor; CompType: LDO IC; PackageTopMarking: ZXTT*LENB; Published: 4-Dec-2008; DatasheetVersion: Mar-2006; PackageVersion: revF, Apr-2008; PackageReference: MUA08A; Publisher: Altium Limited; PackageDescription: MINI SOIC, .118 x .118 x .034in, 8 Lead, .0256in Pitch; RoHS: O; PinCount: 8; DigiKeyPartNumber: LP3982IMM-1.8CT-ND; Code_JEDEC: MO-187-AA; ComponentLink1Description: LP3982 Datasheet; ComponentLink1URL: http://www.national.com/ds/LP/LP3982.pdf; ComponentLink2Description: LP3982 Web Page; ComponentLink2URL: http://www.national.com/pf/LP/LP3982.html; ComponentLink3Description: MUA08A Package Page; ComponentLink3URL: http://www.national.com/packaging/folders/mua08a.html
footprint MUA08A_N (TSOP, 8-Leads, Body 3x3mm, Pitch 0.65mm, IPC Medium Density)
footprint MUA08A_L (TSOP, 8-Leads, Body 3x3mm, Pitch 0.65mm, IPC High Density)
footprint MUA08A_M (TSOP, 8-Leads, Body 3x3mm, Pitch 0.65mm, IPC Low Density)
pins: 1 OUT (power), 2 IN (power), 3 GND (power), 4 OUT (power), 5 NC, 6 CC, 7 ~{SD} (in), 8 ~{FLT} (oc)